# EAGLE library part LLC (library 5027740891)
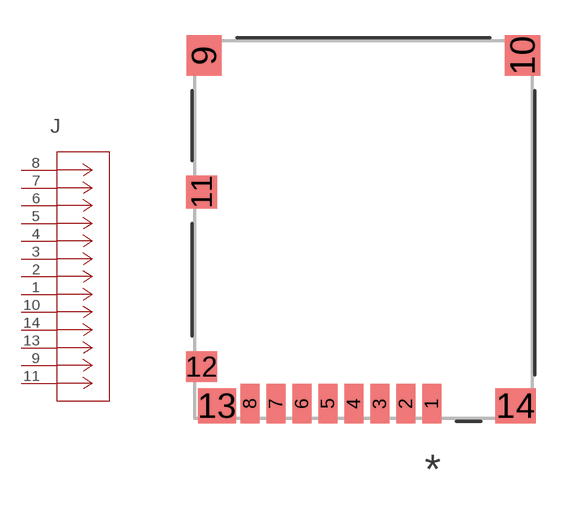
[diagram p0: symbol with the pads of CON00218_8; footprint CON00218_8]

Designator prefix J

## LLC (MANUFACTURER_PART_NUMBER: LLC; VENDOR: Molex Connector Corporation)  [CON00218_8]
1  1  pas
2  2  pas
3  3  pas
4  4  pas
5  5  pas
6  6  pas
7  7  pas
8  8  pas
9  9  pas
10  10  pas
11  11  pas
13  13  pas
14  14  pas

## Footprint CON00218_8 (pad centres in mm)
smd 0.813 x 1.676: 1 2.899,-7.387; 2 1.799,-7.387; 3 0.699,-7.387; 4 -0.401,-7.387; 5 -1.501,-7.387; 6 -2.601,-7.387; 7 -3.701,-7.387; 8 -4.801,-7.387
smd 1.499 x 1.702: 9 -6.751,7.374; 10 6.751,7.374
smd 1.295 x 1.397: 11 -6.859,1.577
smd 1.295 x 1.295: 12 -6.859,-5.823
smd 1.6 x 1.499: 13 -6.201,-7.476
smd 1.702 x 1.499: 14 6.449,-7.476